# Altium footprint library PCB库.PcbLib: 17 footprints (part 2 of 2)
Each footprint in its own frame and in the unit in brackets; x right, y up, seen from the top. Pads: shape width x height; smd on the part's side, far side on the other; paste and mask are expansions set on the pad; w line width, h text height; cw(c..) or ccw(c..) is an arc to the next point about the centre after c.
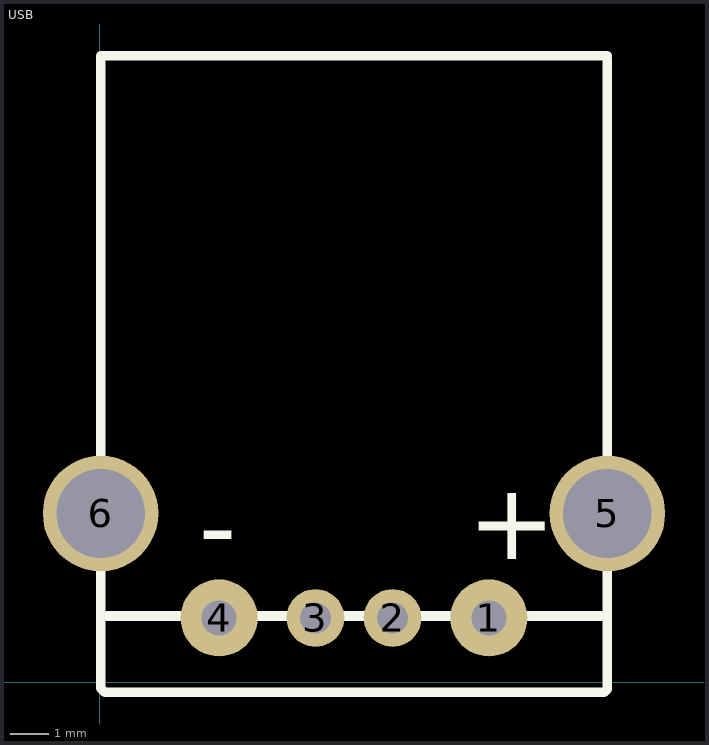
[diagram p1: the footprint, top view; thin cyan lines are the x and y axes]

## USB [mm]
pads (6):
  round 2 hole 0.9: 1(10.092,1.671) 4(3.092,1.671)
  round 1.5 hole 0.8: 2(7.592,1.671) 3(5.592,1.671)
  round 3 hole 2.3: 5(13.162,4.381) 6(0.022,4.381)
Top Overlay:
  lines w0.25: 0.022,1.721 13.092,1.721 13.117,1.746 ; 13.162,4.381 13.162,16.166 ; 13.162,5.596 13.162,-0.174 13.082,-0.254 0.127,-0.254 0.022,-0.149 0.022,4.381 0.022,16.241 0.027,16.246 13.162,16.246
  text "-" at 2.567,3.071 h2
  text "+" at 9.542,3.196 h2